# EAGLE library part GROVE_TCA9548A_MODULE_3CH (library grove_tca9548a_3ch_and_connectors_2)
Upstream I2C + 3 canais (CH0..CH2). Usa pads dummy fora do contorno.
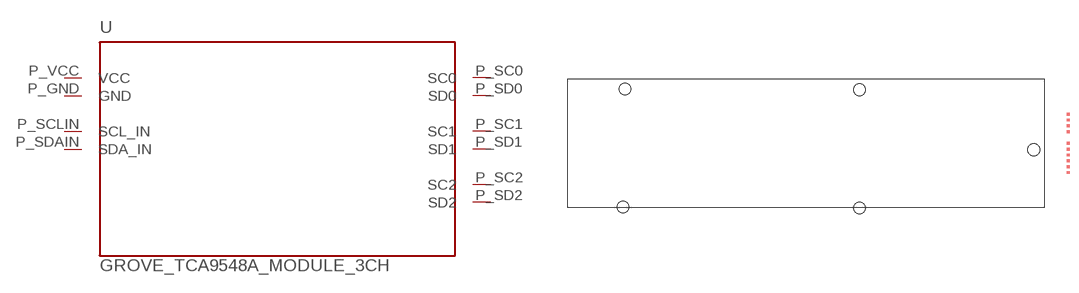
[diagram p0: symbol with the pads of GROVE_TCA9548A_MODULE_82X22_M2_5H; footprint GROVE_TCA9548A_MODULE_82X22_M2_5H]

Designator prefix U

## GROVE_TCA9548A_MODULE_3CH  [GROVE_TCA9548A_MODULE_82X22_M2_5H]
P_GND  GND  pwr
P_SC0  SC0
P_SC1  SC1
P_SC2  SC2
P_SCLIN  SCL_IN
P_SD0  SD0
P_SD1  SD1
P_SD2  SD2
P_SDAIN  SDA_IN
P_VCC  VCC  pwr

## Footprint GROVE_TCA9548A_MODULE_82X22_M2_5H (pad centres in mm)
Outline 82x22mm + 5x M2 holes (Ø2.0mm) + keepout. Origin at centre.
smd 0.5 x 0.5: P_GND 45,4; P_SC0 45,0; P_SC1 45,-2; P_SC2 45,-4; P_SCLIN 45,3; P_SD0 45,-1; P_SD1 45,-3; P_SD2 45,-5; P_SDAIN 45,2; P_VCC 45,5
hole 2 at -31.1,9.34
hole 2 at -31.41,-10.93
hole 2 at 9.14,9.19
hole 2 at 9.14,-11.08
hole 2 at 39.08,-1.1